# Altium footprint library MIFA.PcbLib: 6 footprints
Each footprint in its own frame and in the unit in brackets; x right, y up, seen from the top. Pads: shape width x height; smd on the part's side, far side on the other; paste and mask are expansions set on the pad; w line width, h text height; cw(c..) or ccw(c..) is an arc to the next point about the centre after c.
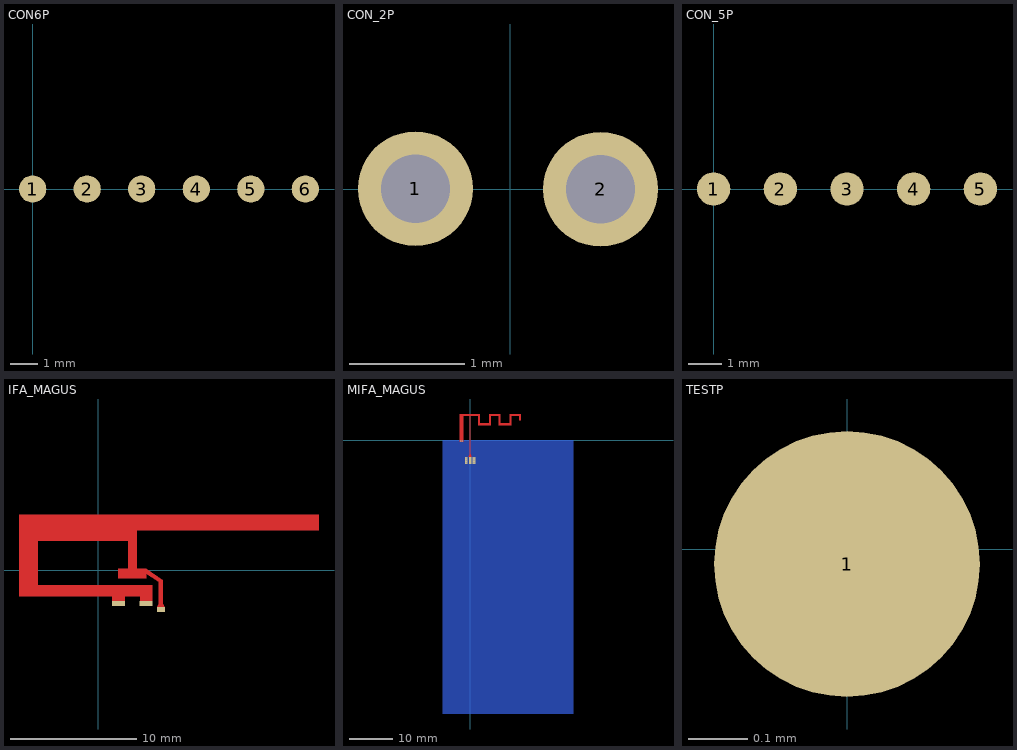
[diagram p0: the footprints below, top view; thin cyan lines are the x and y axes]

## CON6P [mm]
pads (6):
  round 1 smd: 1(0,0) 2(2,0) 3(4,0) 4(6,0) 5(8,0) 6(10,0)

## CON_2P [mm]
pads (2):
  round 1 hole 0.6: 1(-0.825,0.004) 2(0.787,0)

## CON_5P [mm]
pads (5):
  round 1 smd: 1(0,0) 2(2,0) 3(4,0) 4(6,0) 5(8,0)

## IFA_MAGUS [mm]
pads (3):
  rect 0.599x0.4 smd paste-2539.97 mask+0.102: 1(4.978,-3.14)
  rect 1.05x0.4 smd paste-2539.97 mask+0.102: 2(1.603,-2.644)
  rect 1x0.4 smd paste-2539.97 mask+0.102: 2(3.788,-2.644)
Top Layer:
  rectangle: -5,2.307 2.36,4.401
  rectangle: 1.569,-0.675 3.829,0.125
  rectangle: -6.3,-2.084 4.295,-1.2
  rectangle: -6.3,-1.5 -4.8,4.401
  rectangle: 3.291,-2.459 4.295,-2.072
  rectangle: 1.083,-2.478 2.134,-2.066
  rectangle: 2.34,0 3.074,4.401
  rectangle: 3.057,3.151 17.524,4.401
  region: 3.796,-0.28 4.81,-0.942 4.81,-2.675 4.677,-2.945 5.277,-2.945 5.135,-2.675 5.135,-0.813 3.796,0.121

## MIFA_MAGUS [mil]
pads (3):
  rect 23.6x63 smd paste-99999 mask+4: 1(-0.01,-182.12) 2(-35.41,-182.12) 2(35.39,-182.12)
via 34.99,-204.12 diameter 12 hole 12
via 34.99,-183.12 diameter 12 hole 12
via 34.99,-160.12 diameter 12 hole 12
via -35.01,-203.12 diameter 12 hole 12
via -35.01,-183.12 diameter 12 hole 12
via -36.01,-161.12 diameter 12 hole 12
via -69.06,-8.2 diameter 12 hole 12
via -86.13,-7.96 diameter 12 hole 12
Top Layer:
  rectangle: -5.2,-130.74 4.64,220
  rectangle: 270,134.11 374.72,153.79
  rectangle: -95.75,-18 -60.32,236.47
  rectangle: 170,146 189.68,236.47
  rectangle: 186,216.79 276.3,236.47
  rectangle: 256.61,134.11 276.3,219
  rectangle: 83,134.11 189.68,153.79
  rectangle: 355.04,150 374.72,236.47
  rectangle: 370,216.79 461.34,236.47
  rectangle: 441.65,179 461.34,224
  rectangle: -94,216.79 91.26,236.47
  rectangle: 71.57,134.11 91.26,224
  region: -11.76,-150.72 -5.09,-126.12 2.91,-126.12 4.55,-126.12 11.73,-150.72
Bottom Layer 1:
  rectangle: -248,-2477.32 933.1,3

## TESTP [mm]
pads (1):
  round 0.45 smd mask+0: 1(0,-0.025)